# EAGLE library part 9-1393239-8 (library Relays)
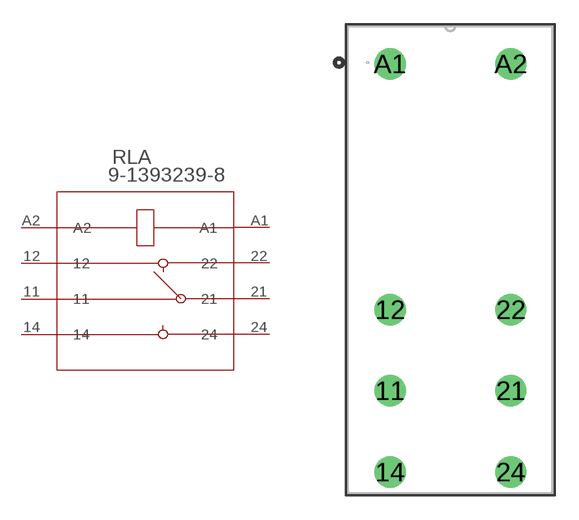
[diagram p30: symbol with the pads of RELAY8_9-1393239-8; footprint RELAY8_9-1393239-8]

Designator prefix RLA

## 9-1393239-8 (BUILT_BY: EMA_UL_Team; CATEGORY: Power Relays; CONTACT_ARRANGEMENT: 1 Form C (CO); COPYRIGHT: Copyright (C) 2016 Accelerated Designs. All rights reserved; DESCRIPTION: RT314024; MANUFACTURER_PART_NUMBER: RT314024; MAXIMUM_SWITCHING_CURRENT: -; MAXIMUM_SWITCHING_VOLTAGE: -; PART_STATUS: active; PRODUCT_TYPE: -; RELAY_TYPE: -; SERIES: SCHRACK Power PCB Relay RT1; TE_PART_NUMBER: RT314024 (9-1393239-8); VENDOR: TE Connectivity)  [RELAY8_9-1393239-8]
11  11  pas
12  12  pas
14  14  pas
21  21  pas
22  22  pas
24  24  pas
A1  A1  pas
A2  A2  pas

## Footprint RELAY8_9-1393239-8 (pad centres in mm)
drill 1.295 pad 1.803: 11 -7.493,4.013; 12 -7.493,9.042; 14 -7.493,-1.041; 21 0,4.013; 22 0,9.042; 24 0,-1.041; A1 -7.493,24.308; A2 0,24.308